# Altium footprint library Pakage_lib.pcblib: 90 footprints (part 4 of 6)
Each footprint in its own frame and in the unit in brackets; x right, y up, seen from the top. Pads: shape width x height; smd on the part's side, far side on the other; paste and mask are expansions set on the pad; w line width, h text height; cw(c..) or ccw(c..) is an arc to the next point about the centre after c.
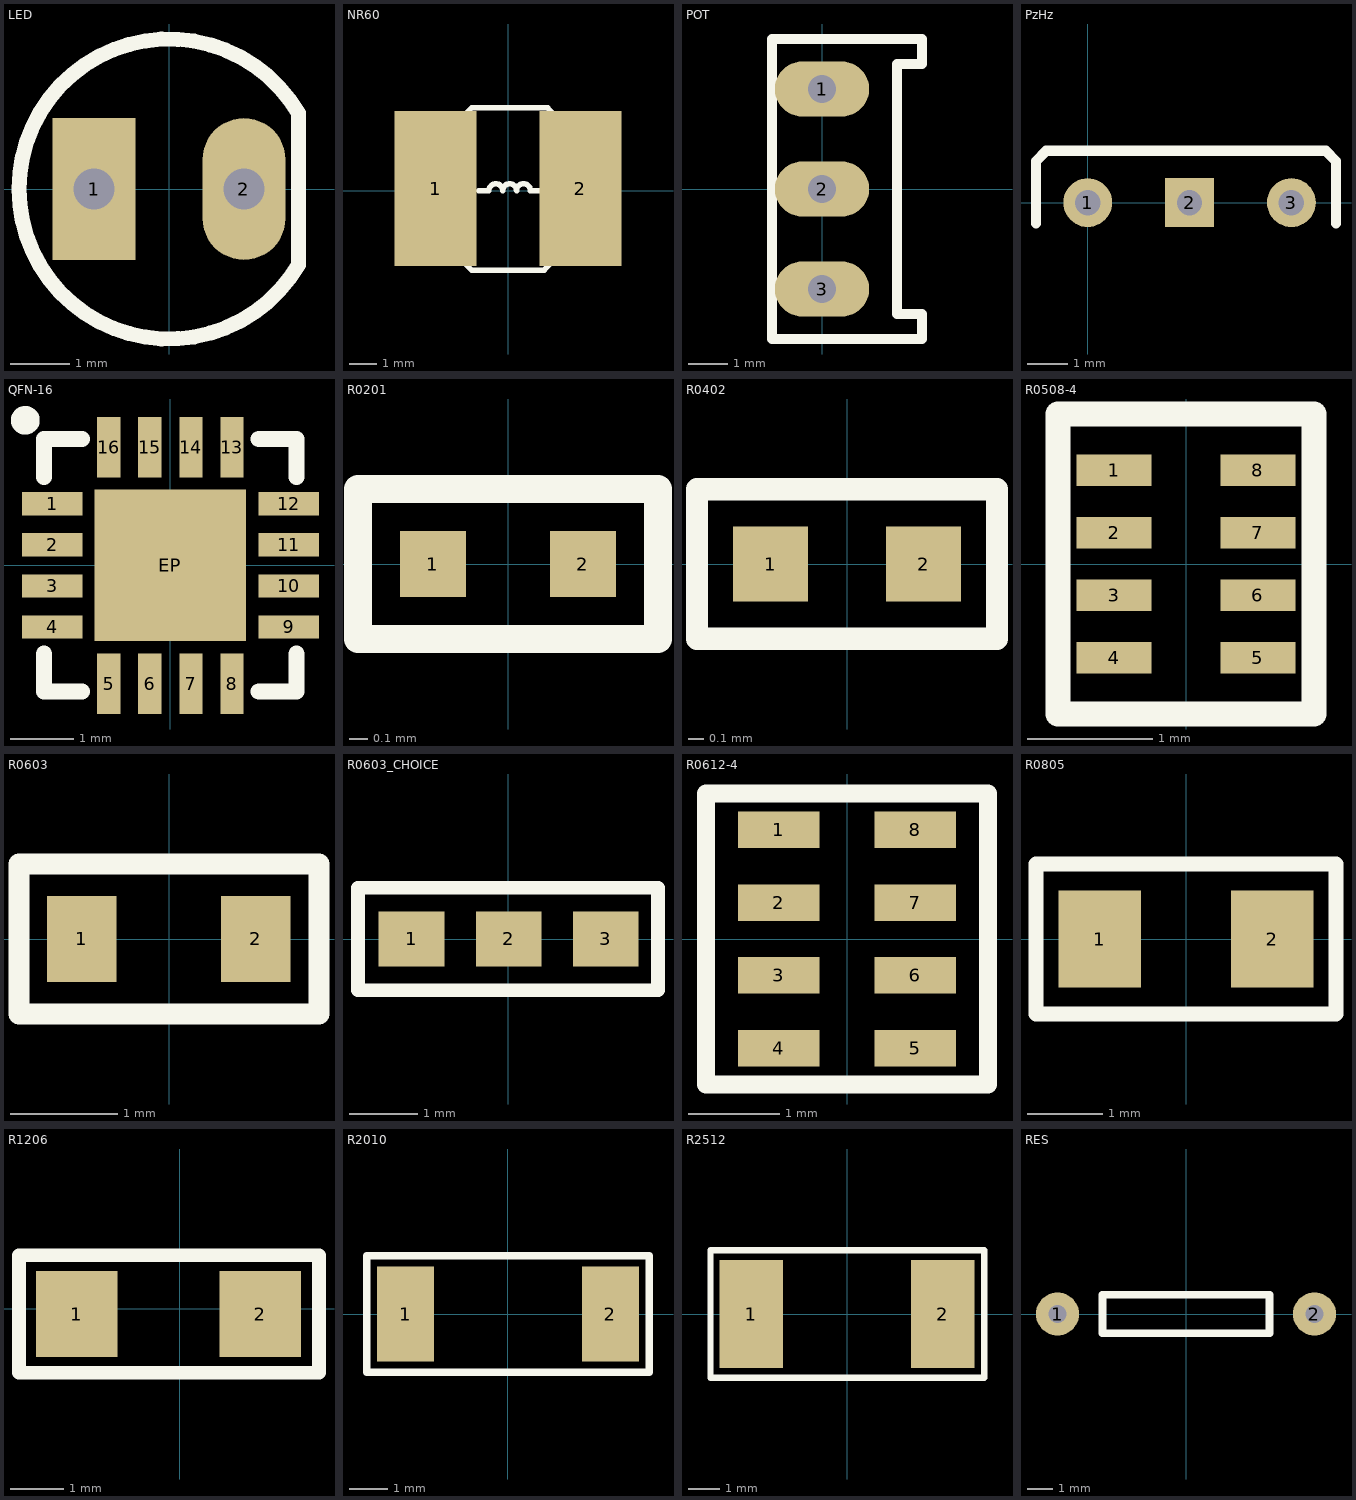
[diagram p3: the footprints below, top view; thin cyan lines are the x and y axes]

## LED [mm]
pads (2):
  rect 1.4x2.4 hole 0.7: 1(-1.27,0)
  oval 1.4x2.4 hole 0.7: 2(1.27,0)
Top Overlay:
  lines w0.254: 2.189,-1.288 cw(c0,0) 2.189,1.288 2.189,-1.288

## NR60 [mm] "TAIYO INDUCTOR"
height 2.8
pads (2):
  rect 3x5.7 smd: 1(-2.671,0.079) 2(2.654,0.079)
Top Overlay:
  lines w0.2: -1.091,0 -0.71,0 cw(c-0.456,0) -0.202,0 cw(c0.052,0) 0.306,0 cw(c0.56,0) 0.814,0 1.195,0 ; -2.615,-1.651 -2.615,1.778 -1.345,3.048 1.449,3.048 2.592,1.905 2.592,-1.651 1.322,-2.921 -1.345,-2.921 -2.615,-1.651
3D body "User Library-Inductor SDR0403 Series.STEP": height 3.25, standoff 0, extent -2.201,-2.2 2.201,2.3

## POT [mm]
pads (3):
  oval 2.4x1.4 hole 0.7: 1(0,2.54) 2(0,0) 3(0,-2.54)
Top Overlay:
  lines w0.254: -1.27,-3.81 2.54,-3.81 2.54,-3.175 1.905,-3.175 1.905,3.175 2.54,3.175 2.54,3.81 -1.27,3.81 -1.27,-3.81

## PzHz [mm]
pads (3):
  round 1.2 hole 0.62: 1(0,0) 3(5,0)
  rect 1.2x1.2 hole 0.62: 2(2.5,0)
Top Overlay:
  lines w0.254: -1.27,-0.508 -1.27,1.016 -1.016,1.27 -0.762,1.27 5.842,1.27 6.096,1.016 6.096,-0.508

## QFN-16 [mm]
pads (17):
  rect 0.96x0.37 smd: 1(-1.875,0.975) 2(-1.875,0.325) 3(-1.875,-0.325) 4(-1.875,-0.975) 9(1.875,-0.975) 10(1.875,-0.325) 11(1.875,0.325) 12(1.875,0.975)
  rect 0.37x0.96 smd: 5(-0.975,-1.875) 6(-0.325,-1.875) 7(0.325,-1.875) 8(0.975,-1.875) 13(0.975,1.875) 14(0.325,1.875) 15(-0.325,1.875) 16(-0.975,1.875)
  rect 2.4x2.4 smd: EP(0,0)
Top Overlay:
  circle w0.254: c-2.3,2.3 r0.1
  lines w0.254: -2,-1.4 -2,-2 -1.4,-2 ; -2,1.4 -2,2 -1.4,2 ; 1.4,-2 2,-2 2,-1.4 ; 1.4,2 2,2 2,1.4
3D body "User Library-qfn16-4x4with pad.STEP": height 0.92, standoff 0, extent -2,-2 2,2

## R0201 [mm] "SMD Body 0.6 x 0.3 mm (LxW typ)"
height 0.35
pads (2):
  rect 0.35x0.35 smd: 1(-0.4,0) 2(0.4,0)
Top Overlay:
  lines w0.15: -0.8,-0.4 -0.8,0.4 0.8,0.4 0.8,-0.4 -0.8,-0.4
3D body "User Library-res0201-1.STEP": height 0.23, standoff 0, extent -0.3,-0.15 0.3,0.15

## R0402 [mm]
pads (2):
  rect 0.5x0.5 smd: 1(-0.51,0) 2(0.51,0)
Top Overlay:
  lines w0.15: -1,-0.5 -1,0.5 1,0.5 1,-0.5 -1,-0.5
3D body "User Library-res0402-1.STEP": height 0.3, standoff 0, extent -0.5,-0.25 0.5,0.25

## R0508-4 [mm] "Resistor array (4 resistors)"
pads (8):
  rect 0.6x0.25 smd: 1(-0.575,0.75) 2(-0.575,0.25) 3(-0.575,-0.25) 4(-0.575,-0.75) 5(0.575,-0.75) 6(0.575,-0.25) 7(0.575,0.25) 8(0.575,0.75)
Top Overlay:
  lines w0.2: -1.025,-1.2 -1.025,1.2 1.025,1.2 1.025,-1.2 -1.025,-1.2
3D body "User Library-741C083.step": height 0.35, standoff -0.03, extent -0.502,-1 0.502,1

## R0603 [mm]
pads (2):
  rect 0.65x0.8 smd: 1(-0.815,0) 2(0.81,0)
Top Overlay:
  lines w0.2: -1.4,-0.7 1.4,-0.7 1.4,0.7 -1.4,0.7 -1.4,-0.7
3D body "User Library-Chip Resistor_0603 (1608).STEP": height 0.47, standoff 0, extent -0.8,-0.402 0.8,0.4

## R0603_CHOICE [mm] "0603 placement for choice line"
pads (3):
  rect 0.965x0.8 smd: 1(-1.415,0) 2(0.01,0) 3(1.435,0)
Top Overlay:
  lines w0.2: -2.2,-0.75 -2.2,0.75 2.2,0.75 2.2,-0.75 -2.2,-0.75
3D body "User Library-Chip Resistor_0603 (1608).STEP": height 0.47, standoff 0, extent -1.475,-0.4 0.125,0.402

## R0612-4 [mm] "Resistor array (4 resistors)"
pads (8):
  rect 0.9x0.4 smd: 1(-0.75,1.2) 2(-0.75,0.4) 3(-0.75,-0.4) 4(-0.75,-1.2) 5(0.75,-1.2) 6(0.75,-0.4) 7(0.75,0.4) 8(0.75,1.2)
Top Overlay:
  lines w0.2: -1.55,-1.6 1.55,-1.6 1.55,1.6 -1.55,1.6 -1.55,-1.6
3D body "User Library-Array-1206-4Way-Var1.STEP": height 0.5, standoff 0, extent -0.8,-1.6 0.8,1.6

## R0805 [mm]
pads (2):
  rect 1.1x1.3 smd: 1(-1.15,0) 2(1.15,0)
Top Overlay:
  lines w0.2: -2,-1 -2,1 2,1 2,-1 -2,-1
3D body "User Library-CRS0805.STEP": height 0.5, standoff 0, extent -1,-0.625 1,0.625

## R1206 [mm]
pads (2):
  rect 1.52x1.6 smd: 1(-1.925,-0.1) 2(1.5,-0.1)
Top Overlay:
  lines w0.254: -3,-1.2 -3,1 2.6,1 2.6,-1.2 -3,-1.2
3D body "User Library-CRS1206.STEP": height 0.55, standoff 0, extent -1.75,-0.9 1.35,0.7

## R2010 [mm] "SMD Body 5 x 2.5 mm (LxW typ)"
height 0.5
pads (2):
  rect 1.5x2.5 smd: 1(-2.675,0) 2(2.7,0)
Top Overlay:
  lines w0.2: -3.7,-1.525 -3.7,1.525 3.725,1.525 3.725,-1.525 -3.7,-1.525
3D body "User Library-R2010-1.STEP": height 0.55, standoff 0, extent -2.5,-1.26 2.5,1.26

## R2512 [mm]
pads (2):
  rect 2x3.4 smd: 1(-3.025,0) 2(3,0)
Top Overlay:
  lines w0.2: -4.3,-2 4.3,-2 4.3,2 -4.3,2 -4.3,-2
3D body "User Library-Resistors2512.STEP": height 0.61, standoff -0.01, extent -3.225,-1.612 3.225,1.613

## RES [mm]
pads (2):
  round 1.7 hole 0.7: 1(-5.08,0) 2(5.08,0)
Top Overlay:
  lines w0.3: -3.302,-0.762 3.302,-0.762 3.302,0.762 1.905,0.762 -1.397,0.762 -3.302,0.762 -3.302,-0.762